# Altium schematic symbol library Diods.SchLib: 6 symbols
Pins are listed as number, name and electrical type; pins without a type are passive.

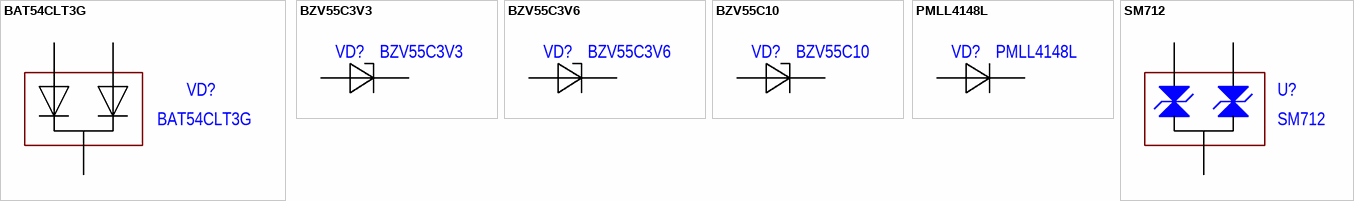
[diagram p0: symbols BAT54CLT3G to SM712]

## BAT54CLT3G
designator VD?
DIODE ARRAY SCHOTTKY 30V SOT23-3; Manufacturer: ON Semiconductor; Part Number: BAT54CLT3G; Note: SOT23-3
footprint SOT23_132 (SOT23, 3-Leads, Body 3,0x2,6mm (max), Pitch 0,95mm, IPC Medium Density)
pins: 1, 2, 3

## BZV55C3V3
designator VD?
Manufacturer: Nexperia USA Inc.; Part Number: BZV55C3V3
footprint SOD80
pins: 1, 2

## BZV55C3V6
designator VD?
Manufacturer: Nexperia USA Inc.; Part Number: BZV55C3V6
footprint SOD80
pins: 1, 2

## BZV55C10
designator VD?
Manufacturer: Nexperia USA Inc.; Part Number: BZV55C10
footprint SOD80
pins: 1, 2

## PMLL4148L
designator VD?
Manufacturer: Nexperia USA Inc.; Part Number: PMLL4148L
footprint SOD80
pins: 1, 2

## SM712
designator U?
TVS DIODE 12V 31V SOT23-3; Part Number: SM712-02HTG; Manufacturer: Littelfuse Inc.; Note: SOT-23
footprint SOT23_132 (SOT23, 3-Leads, Body 3,0x2,6mm (max), Pitch 0,95mm, IPC Medium Density)
pins: 1, 2, 3